# Altium footprint library switch_board.PcbLib: 5 footprints
Each footprint in its own frame and in the unit in brackets; x right, y up, seen from the top. Pads: shape width x height; smd on the part's side, far side on the other; paste and mask are expansions set on the pad; w line width, h text height; cw(c..) or ccw(c..) is an arc to the next point about the centre after c.
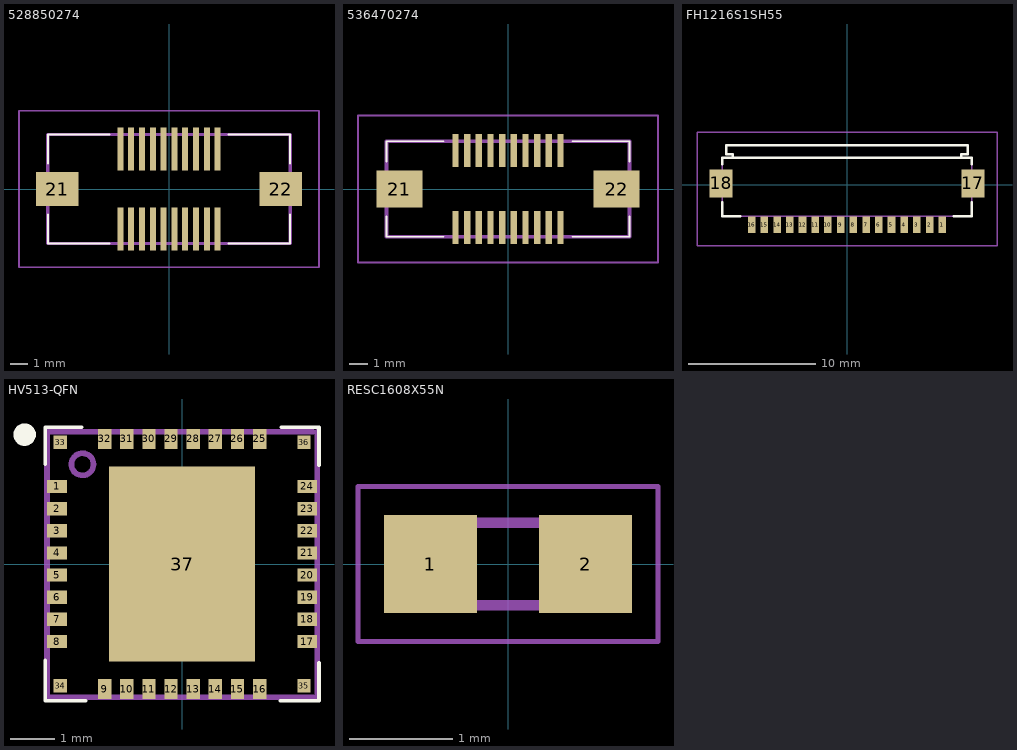
[diagram p0: the footprints below, top view; thin cyan lines are the x and y axes]

## 528850274 [mm]
pads (22):
  rect 0.35x2.5 smd: 1(-2.857,-2.35) 2(-2.857,2.35) 3(-2.223,-2.35) 4(-2.223,2.35) 5(-1.587,-2.35) 6(-1.587,2.35) 7(-0.952,-2.35) 8(-0.952,2.35) 9(-0.317,-2.35) 10(-0.317,2.35) 11(0.317,-2.35) 12(0.317,2.35) 13(0.953,-2.35) 14(0.953,2.35) 15(1.588,-2.35) 16(1.588,2.35) 17(2.223,-2.35) 18(2.223,2.35) 19(2.857,-2.35) 20(2.857,2.35)
  rect 2.5x2 smd: 21(-6.56,0) 22(6.56,0)
Top Overlay:
  lines w0.1: -7.11,-1.5 -7.11,-3.2 -3.5,-3.2 ; -7.11,1.5 -7.11,3.2 -3.5,3.2 ; 3.5,-3.2 7.11,-3.2 7.11,-1.5 ; 3.5,3.2 7.11,3.2 7.11,1.5
Mechanical 13:
  lines w0.2: -7.11,-3.2 -7.11,3.2 7.11,3.2 7.11,-3.2 -7.11,-3.2
Mechanical 15:
  lines w0.1: -8.81,-4.6 -8.81,4.6 8.81,4.6 8.81,-4.6 -8.81,-4.6
3D body "52885-0274.stp": height 4.2, standoff -0.61, extent -7.11,-3.2 7.11,3.2

## 536470274 [mm]
pads (22):
  rect 0.35x1.8 smd: 1(-2.857,-2.1) 2(-2.857,2.1) 3(-2.223,-2.1) 4(-2.223,2.1) 5(-1.588,-2.1) 6(-1.588,2.1) 7(-0.953,-2.1) 8(-0.953,2.1) 9(-0.317,-2.1) 10(-0.317,2.1) 11(0.317,-2.1) 12(0.317,2.1) 13(0.953,-2.1) 14(0.953,2.1) 15(1.588,-2.1) 16(1.588,2.1) 17(2.223,-2.1) 18(2.223,2.1) 19(2.857,-2.1) 20(2.857,2.1)
  rect 2.5x2 smd: 21(-5.91,0) 22(5.91,0)
Top Overlay:
  lines w0.1: -6.61,-1.5 -6.61,-2.6 -3.5,-2.6 ; -6.61,1.5 -6.61,2.6 -3.5,2.6 ; 3.5,-2.6 6.61,-2.6 6.61,-1.5 ; 3.5,2.6 6.61,2.6 6.61,1.5
Mechanical 13:
  lines w0.2: -6.61,-2.6 -6.61,2.6 6.61,2.6 6.61,-2.6 -6.61,-2.6
Mechanical 15:
  lines w0.1: -8.16,-4 -8.16,4 8.16,4 8.16,-4 -8.16,-4
3D body "53647-0274.stp": height 7.2, standoff -0.6, extent -6.61,-2.6 6.61,2.6

## FH1216S1SH55 [mm]
pads (18):
  rect 0.6x1.3 smd: 1(7.5,-3.125) 2(6.5,-3.125) 3(5.5,-3.125) 4(4.5,-3.125) 5(3.5,-3.125) 6(2.5,-3.125) 7(1.5,-3.125) 8(0.5,-3.125) 9(-0.5,-3.125) 10(-1.5,-3.125) 11(-2.5,-3.125) 12(-3.5,-3.125) 13(-4.5,-3.125) 14(-5.5,-3.125) 15(-6.5,-3.125) 16(-7.5,-3.125)
  rect 1.8x2.2 smd: 17(9.9,0.125) 18(-9.9,0.125)
Top Overlay:
  lines w0.2: -9.8,-1.375 -9.8,-2.475 -8.4,-2.475 ; -9.8,1.625 -9.8,2.125 9.8,2.125 9.8,1.625 ; -9,2.125 -9,2.425 -9.5,2.425 -9.5,3.125 9.5,3.125 9.5,2.425 9,2.425 9,2.125 ; 8.4,-2.475 9.8,-2.475 9.8,-1.375
Mechanical 13:
  lines w0.1: -9,2.125 -9,2.425 -9.5,2.425 -9.5,3.125 9.5,3.125 9.5,2.425 9,2.425 9,2.125 ; -9.8,-2.475 -9.8,2.125 9.8,2.125 9.8,-2.475 -9.8,-2.475
Mechanical 15:
  lines w0.1: -11.8,-4.775 -11.8,4.125 11.8,4.125 11.8,-4.775 -11.8,-4.775
3D body "FH12-16S-1SH(55)--3DModel-STEP-1.STEP": height 2.04, standoff -0.06, extent -10.358,-3.378 10.243,3.022

## HV513-QFN [mm]
pads (37):
  rect 0.45x0.3 smd: 1(-2.825,1.75) 2(-2.825,1.25) 3(-2.825,0.75) 4(-2.825,0.25) 5(-2.825,-0.25) 6(-2.825,-0.75) 7(-2.825,-1.25) 8(-2.825,-1.75) 17(2.825,-1.75) 18(2.825,-1.25) 19(2.825,-0.75) 20(2.825,-0.25) 21(2.825,0.25) 22(2.825,0.75) 23(2.825,1.25) 24(2.825,1.75)
  rect 0.3x0.45 smd: 9(-1.75,-2.825) 10(-1.25,-2.825) 11(-0.75,-2.825) 12(-0.25,-2.825) 13(0.25,-2.825) 14(0.75,-2.825) 15(1.25,-2.825) 16(1.75,-2.825) 25(1.75,2.825) 26(1.25,2.825) 27(0.75,2.825) 28(0.25,2.825) 29(-0.25,2.825) 30(-0.75,2.825) 31(-1.25,2.825) 32(-1.75,2.825)
  rect 0.3x0.3 smd: 33(-2.75,2.75) 34(-2.75,-2.75) 35(2.75,-2.75) 36(2.75,2.75)
  rect 3.3x4.4 smd: 37(0,0)
Top Overlay:
  circle w0.254: c-3.556,2.921 r0.127
  lines w0.08: -3.09,-2.17 -3.09,-3.09 -2.177,-3.09 ; -3.09,2.254 -3.09,3.09 -2.27,3.09 ; 2.221,-3.09 3.09,-3.09 3.09,-2.233 ; 2.234,3.09 3.09,3.09 3.09,2.227
Mechanical 7:
  circle w0.127: c-2.25,2.25 r0.25
  lines w0.127: 2.948,-3.012 -3.052,-3.012 -3.052,2.988 2.948,2.988 ; 3.052,-3.012 3.052,2.988
3D body: height 0.81, standoff 0.25, extent -2.376,2.122 -2.122,2.376
3D body: height 0.8, standoff 0.01, extent -2.921,-2.921 2.921,2.921

## RESC1608X55N [mm]
pads (2):
  rect 0.9x0.95 smd: 1(-0.75,0) 2(0.75,0)
Mechanical 13:
  lines w0.1: -0.8,-0.4 -0.8,0.4 0.8,0.4 0.8,-0.4 -0.8,-0.4
Mechanical 15:
  lines w0.05: -1.45,-0.75 -1.45,0.75 1.45,0.75 1.45,-0.75 -1.45,-0.75
3D body "CRT0603ABY-1000ELF.stp": height 0.55, standoff 0, extent -0.8,-0.4 0.8,0.4